# Altium footprint library pcb_lib_own_.PcbLib: 20 footprints (part 1 of 2)
Each footprint in its own frame and in the unit in brackets; x right, y up, seen from the top. Pads: shape width x height; smd on the part's side, far side on the other; paste and mask are expansions set on the pad; w line width, h text height; cw(c..) or ccw(c..) is an arc to the next point about the centre after c.
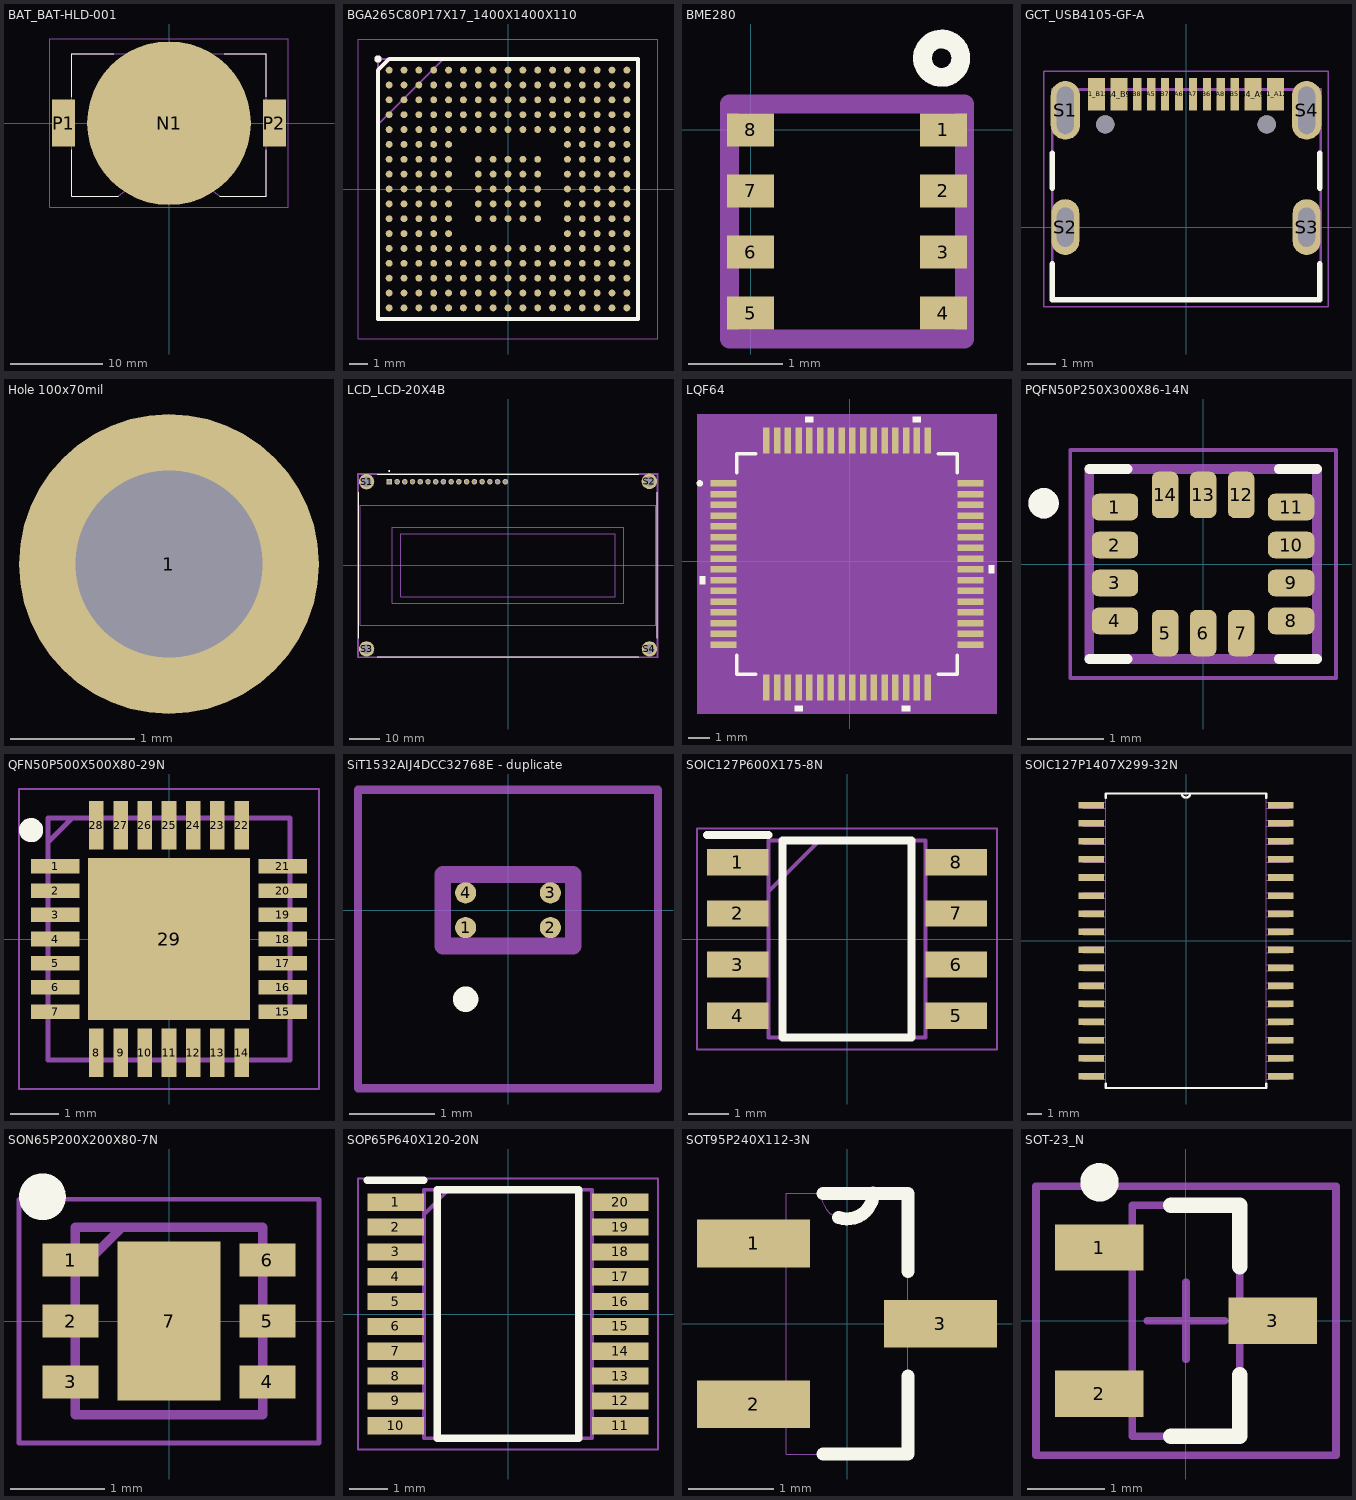
[diagram p0: the footprints below, top view; thin cyan lines are the x and y axes]

## BAT_BAT-HLD-001 [mm]
pads (3):
  round 17.8 smd paste-10: N1(0,0)
  rect 2.5x5.1 smd: P1(-11.45,0) P2(11.45,0)
Top Overlay:
  lines w0.127: -10.55,-2.87 -10.55,-7.95 -5.5,-7.95 ; -10.55,2.87 -10.55,7.55 -6,7.55 ; 5.5,-7.95 10.55,-7.95 10.55,-2.87 ; 6,7.55 10.55,7.55 10.55,2.87
Mechanical 13:
  lines w0.127: -5.5,-7.95 -10.55,-7.95 -10.55,7.55 10.55,7.55 10.55,-7.95 5.5,-7.95 ; -5.495,-7.946 cw(c0,-14.731) 0,-6 cw(c0,-14.731) 5.495,-7.946
Mechanical 15:
  lines w0.05: -12.95,-9.15 -12.95,9.15 12.95,9.15 12.95,-9.15 -12.95,-9.15
3D body "CR2032_closed_battery_BH.step": height 3.7, standoff -0.16, extent -11.879,-10.257 11.371,9.743

## BGA265C80P17X17_1400X1400X110 [mm]
pads (265):
  round 0.37 smd: A1(-6.4,6.4) A2(-5.6,6.4) A3(-4.8,6.4) A4(-4,6.4) A5(-3.2,6.4) A6(-2.4,6.4) A7(-1.6,6.4) A8(-0.8,6.4) A9(0,6.4) A10(0.8,6.4) A11(1.6,6.4) A12(2.4,6.4) A13(3.2,6.4) A14(4,6.4) A15(4.8,6.4) A16(5.6,6.4) A17(6.4,6.4) B1(-6.4,5.6) B2(-5.6,5.6) B3(-4.8,5.6) B4(-4,5.6) B5(-3.2,5.6) B6(-2.4,5.6) B7(-1.6,5.6) B8(-0.8,5.6) B9(0,5.6) B10(0.8,5.6) B11(1.6,5.6) B12(2.4,5.6) B13(3.2,5.6) B14(4,5.6) B15(4.8,5.6) B16(5.6,5.6) B17(6.4,5.6) C1(-6.4,4.8) C2(-5.6,4.8) C3(-4.8,4.8) C4(-4,4.8) C5(-3.2,4.8) C6(-2.4,4.8) C7(-1.6,4.8) C8(-0.8,4.8) C9(0,4.8) C10(0.8,4.8) C11(1.6,4.8) C12(2.4,4.8) C13(3.2,4.8) C14(4,4.8) C15(4.8,4.8) C16(5.6,4.8) C17(6.4,4.8) D1(-6.4,4) D2(-5.6,4) D3(-4.8,4) D4(-4,4) D5(-3.2,4) D6(-2.4,4) D7(-1.6,4) D8(-0.8,4) D9(0,4) D10(0.8,4) D11(1.6,4) D12(2.4,4) D13(3.2,4) D14(4,4) D15(4.8,4) D16(5.6,4) D17(6.4,4) E1(-6.4,3.2) E2(-5.6,3.2) E3(-4.8,3.2) E4(-4,3.2) E5(-3.2,3.2) E6(-2.4,3.2) E7(-1.6,3.2) E8(-0.8,3.2) E9(0,3.2) E10(0.8,3.2) E11(1.6,3.2) E12(2.4,3.2) E13(3.2,3.2) E14(4,3.2) E15(4.8,3.2) E16(5.6,3.2) E17(6.4,3.2) F1(-6.4,2.4) F2(-5.6,2.4) F3(-4.8,2.4) F4(-4,2.4) F5(-3.2,2.4) F13(3.2,2.4) F14(4,2.4) F15(4.8,2.4) F16(5.6,2.4) F17(6.4,2.4) G1(-6.4,1.6) G2(-5.6,1.6) G3(-4.8,1.6) G4(-4,1.6) G5(-3.2,1.6) G7(-1.6,1.6) G8(-0.8,1.6) G9(0,1.6) G10(0.8,1.6) G11(1.6,1.6) G13(3.2,1.6) G14(4,1.6) G15(4.8,1.6) G16(5.6,1.6) G17(6.4,1.6) H1(-6.4,0.8) H2(-5.6,0.8) H3(-4.8,0.8) H4(-4,0.8) H5(-3.2,0.8) H7(-1.6,0.8) H8(-0.8,0.8) H9(0,0.8) H10(0.8,0.8) H11(1.6,0.8) H13(3.2,0.8) H14(4,0.8) H15(4.8,0.8) H16(5.6,0.8) H17(6.4,0.8) J1(-6.4,0) J2(-5.6,0) J3(-4.8,0) J4(-4,0) J5(-3.2,0) J7(-1.6,0) J8(-0.8,0) J9(0,0) J10(0.8,0) J11(1.6,0) J13(3.2,0) J14(4,0) J15(4.8,0) J16(5.6,0) J17(6.4,0) K1(-6.4,-0.8) K2(-5.6,-0.8) K3(-4.8,-0.8) K4(-4,-0.8) K5(-3.2,-0.8) K7(-1.6,-0.8) K8(-0.8,-0.8) K9(0,-0.8) K10(0.8,-0.8) K11(1.6,-0.8) K13(3.2,-0.8) K14(4,-0.8) K15(4.8,-0.8) K16(5.6,-0.8) K17(6.4,-0.8) L1(-6.4,-1.6) L2(-5.6,-1.6) L3(-4.8,-1.6) L4(-4,-1.6) L5(-3.2,-1.6) L7(-1.6,-1.6) L8(-0.8,-1.6) L9(0,-1.6) L10(0.8,-1.6) L11(1.6,-1.6) L13(3.2,-1.6) L14(4,-1.6) L15(4.8,-1.6) L16(5.6,-1.6) L17(6.4,-1.6) M1(-6.4,-2.4) M2(-5.6,-2.4) M3(-4.8,-2.4) M4(-4,-2.4) M5(-3.2,-2.4) M13(3.2,-2.4) M14(4,-2.4) M15(4.8,-2.4) M16(5.6,-2.4) M17(6.4,-2.4) N1(-6.4,-3.2) N2(-5.6,-3.2) N3(-4.8,-3.2) N4(-4,-3.2) N5(-3.2,-3.2) N6(-2.4,-3.2) N7(-1.6,-3.2) N8(-0.8,-3.2) N9(0,-3.2) N10(0.8,-3.2) N11(1.6,-3.2) N12(2.4,-3.2) N13(3.2,-3.2) N14(4,-3.2) N15(4.8,-3.2) N16(5.6,-3.2) N17(6.4,-3.2) P1(-6.4,-4) P2(-5.6,-4) P3(-4.8,-4) P4(-4,-4) P5(-3.2,-4) P6(-2.4,-4) P7(-1.6,-4) P8(-0.8,-4) P9(0,-4) P10(0.8,-4) P11(1.6,-4) P12(2.4,-4) P13(3.2,-4) P14(4,-4) P15(4.8,-4) P16(5.6,-4) P17(6.4,-4) R1(-6.4,-4.8) R2(-5.6,-4.8) R3(-4.8,-4.8) R4(-4,-4.8) R5(-3.2,-4.8) R6(-2.4,-4.8) R7(-1.6,-4.8) R8(-0.8,-4.8) R9(0,-4.8) R10(0.8,-4.8) R11(1.6,-4.8) R12(2.4,-4.8) R13(3.2,-4.8) R14(4,-4.8) R15(4.8,-4.8) R16(5.6,-4.8) R17(6.4,-4.8) T1(-6.4,-5.6) T2(-5.6,-5.6) T3(-4.8,-5.6) T4(-4,-5.6) T5(-3.2,-5.6) T6(-2.4,-5.6) T7(-1.6,-5.6) T8(-0.8,-5.6) T9(0,-5.6) T10(0.8,-5.6) T11(1.6,-5.6) T12(2.4,-5.6) T13(3.2,-5.6) T14(4,-5.6) T15(4.8,-5.6) T16(5.6,-5.6) T17(6.4,-5.6) U1(-6.4,-6.4) U2(-5.6,-6.4) U3(-4.8,-6.4) U4(-4,-6.4) U5(-3.2,-6.4) U6(-2.4,-6.4) U7(-1.6,-6.4) U8(-0.8,-6.4) U9(0,-6.4) U10(0.8,-6.4) U11(1.6,-6.4) U12(2.4,-6.4) U13(3.2,-6.4) U14(4,-6.4) U15(4.8,-6.4) U16(5.6,-6.4) U17(6.4,-6.4)
Top Overlay:
  circle w0.2: c-7,7 r0.1
  lines w0.2: -7,-7 7,-7 7,7 -6.4,7 -7,6.4 -7,-7
Mechanical 13:
  lines w0.1: -7,3.462 -3.462,7 ; -7,-7 7,-7 7,7 -7,7 -7,-7
Mechanical 15:
  lines w0.05: -8.075,-8.075 8.075,-8.075 8.075,8.075 -8.075,8.075 -8.075,-8.075
3D body "STM32H747XIH6.stp": height 1.1, standoff 0, extent -7,-7 7,7

## BME280 [mm]
pads (8):
  rect 0.5x0.35 smd: 1(2.05,0) 2(2.05,-0.65) 3(2.05,-1.3) 4(2.05,-1.95) 5(0,-1.95) 6(0,-1.3) 7(0,-0.65) 8(0,0)
Top Overlay:
  circle w0.2: c2.032,0.762 r0.204
Mechanical 15:
  lines w0.2: -0.225,-2.225 2.275,-2.225 2.275,0.275 -0.225,0.275 -0.225,-2.225
3D body "Bme280.stp": height 0.97, standoff 0, extent -0.234,-2.266 2.266,0.234

## GCT_USB4105-GF-A [mm]
pads (18):
  rect 0.6x1.15 smd: A1_B12(-3.2,4.755) A4_B9(-2.4,4.755) B1_A12(3.2,4.755) B4_A9(2.4,4.755)
  rect 0.3x1.15 smd: A5(-1.25,4.755) A6(-0.25,4.755) A7(0.25,4.755) A8(1.25,4.755) B5(1.75,4.755) B6(0.75,4.755) B7(-0.75,4.755) B8(-1.75,4.755)
  oval 1.05x2.1 hole 0.6 slot 1.7 at 90 deg: S1(-4.32,4.18) S4(4.32,4.18)
  oval 1x2 hole 0.6 slot 1.4 at 90 deg: S2(-4.32,0) S3(4.32,0)
  round 0.65 hole 0.65 unplated: ""(-2.89,3.68) ""(2.89,3.68)
Top Overlay:
  lines w0.2: -4.79,-1.32 -4.79,-2.6 4.79,-2.6 4.79,-1.32 ; -4.79,1.4 -4.79,2.65 ; 4.79,1.4 4.79,2.65
Mechanical 13:
  lines w0.1: -4.79,-2.6 -4.79,4.93 4.826,4.93 4.826,-2.6 -4.79,-2.6
Mechanical 15:
  lines w0.05: -5.1,-2.85 5.1,-2.85 5.1,5.58 -5.1,5.58 -5.1,-2.85
3D body "USB4105-GF-A--3DModel-STEP-56544.STEP": height 3.31, standoff -0.85, extent -4.79,-2.6 4.79,5.11

## Hole 100x70mil [mm]
pads (1):
  round 2.4 hole 1.5: 1(-118.237,-4.953)

## LCD_LCD-20X4B [mm]
pads (20):
  rect 1.8x1.8 hole 1.2: 1(-39,27.46)
  round 1.8 hole 1.2: 2(-36.46,27.46) 3(-33.92,27.46) 4(-31.38,27.46) 5(-28.84,27.46) 6(-26.3,27.46) 7(-23.76,27.46) 8(-21.22,27.46) 9(-18.68,27.46) 10(-16.14,27.46) 11(-13.6,27.46) 12(-11.06,27.46) 13(-8.52,27.46) 14(-5.98,27.46) 15(-3.44,27.46) 16(-0.9,27.46)
  round 5.1 hole 3.4: S1(-46.5,27.5) S2(46.482,27.559) S3(-46.5,-27.5) S4(46.5,-27.5)
Top Overlay:
  circle w0.3: c-39,31 r0.15
  lines w0.127: -49,-24 -49,24 ; -43,-30 43,-30 ; -43,30 43,30 ; 49,-24 49,24
Mechanical 13:
  circle w0.3: c-39,31 r0.15
  lines w0.127: -49,-30 -49,30 49,30 49,-30 -49,-30 ; -48.5,-19.75 48.5,-19.75 48.5,19.75 -48.5,19.75 -48.5,-19.75 ; -38,-12.5 -38,12.5 38,12.5 38,-12.5 -38,-12.5 ; -35.2,-10.4 35.2,-10.4 35.2,10.4 -35.2,10.4 -35.2,-10.4
Mechanical 15:
  lines w0.05: -49.3,-30.3 -49.3,30.3 49.3,30.3 49.3,-30.3 -49.3,-30.3
3D body "LCD20x4_HD44780-01_Blue.stp": height 10.88, standoff -2.77, extent -48.781,-29.845 49.289,30.099

## LQF64 [mil]
pads (64):
  rect 47x12 smd paste+0 mask+0: 1(-231.38,142.64) 2(-231.38,122.95) 3(-231.38,103.27) 4(-231.38,83.58) 5(-231.38,63.9) 6(-231.38,44.21) 7(-231.38,24.53) 8(-231.38,4.84) 9(-231.38,-14.84) 10(-231.38,-34.53) 11(-231.38,-54.21) 12(-231.38,-73.9) 13(-231.38,-93.58) 14(-231.38,-113.27) 15(-231.38,-132.95) 16(-231.38,-152.64) 33(221.38,-152.64) 34(221.38,-132.95) 35(221.38,-113.27) 36(221.38,-93.58) 37(221.38,-73.9) 38(221.38,-54.21) 39(221.38,-34.53) 40(221.38,-14.84) 41(221.38,4.84) 42(221.38,24.53) 43(221.38,44.21) 44(221.38,63.9) 45(221.38,83.58) 46(221.38,103.27) 47(221.38,122.95) 48(221.38,142.64)
  rect 12x47 smd paste+0 mask+0: 17(-152.64,-231.38) 18(-132.95,-231.38) 19(-113.27,-231.38) 20(-93.58,-231.38) 21(-73.9,-231.38) 22(-54.21,-231.38) 23(-34.53,-231.38) 24(-14.84,-231.38) 25(4.84,-231.38) 26(24.53,-231.38) 27(44.21,-231.38) 28(63.9,-231.38) 29(83.58,-231.38) 30(103.27,-231.38) 31(122.95,-231.38) 32(142.64,-231.38) 49(142.64,221.38) 50(122.95,221.38) 51(103.27,221.38) 52(83.58,221.38) 53(63.9,221.38) 54(44.21,221.38) 55(24.53,221.38) 56(4.84,221.38) 57(-14.84,221.38) 58(-34.53,221.38) 59(-54.21,221.38) 60(-73.9,221.38) 61(-93.58,221.38) 62(-113.27,221.38) 63(-132.95,221.38) 64(-152.64,221.38)
Top Overlay:
  circle w6: c-274.72,142.64 r3
  region: -66.4,254.88 -81.4,254.88 -81.4,264.88 -66.4,264.88
  region: 130.45,254.88 115.45,254.88 115.45,264.88 130.45,264.88
  region: 254.88,-7.34 264.88,-7.34 264.88,-22.34 254.88,-22.34
  region: 110.77,-264.88 95.77,-264.88 95.77,-274.88 110.77,-274.88
  region: -86.08,-264.88 -101.08,-264.88 -101.08,-274.88 -86.08,-274.88
  region: -264.88,-27.03 -274.88,-27.03 -274.88,-42.03 -264.88,-42.03
  lines w6: -207,-171.71 -207,-207 -171.71,-207 ; -207,161.71 -207,197 -171.71,197 ; 161.71,-207 197,-207 197,-171.71 ; 161.71,197 197,197 197,161.71
Mechanical 5:
  region: 269.88,-279.88 -279.88,-279.88 -279.88,269.88 269.88,269.88
Mechanical 13:
  circle w0: c-182.88,142.64 r3
  lines w1: -202,142 -152,192 ; -202,-202 -202,192 192,192 192,-202 -202,-202
Mechanical 15:
  region: -172.64,-212 -212,-212 -212,-172.64 -274.88,-172.64 -274.88,162.64 -212,162.64 -212,202 -172.64,202 -172.64,264.88 162.64,264.88 162.64,202 202,202 202,162.64 264.88,162.64 264.88,-172.64 202,-172.64 202,-212 162.64,-212 162.64,-274.88 -172.64,-274.88
  lines w6: -274.88,-172.64 -274.88,162.64 -212,162.64 -212,202 -172.64,202 -172.64,264.88 162.64,264.88 162.64,202 202,202 202,162.64 264.88,162.64 264.88,-172.64 202,-172.64 202,-212 162.64,-212 162.64,-274.88 -172.64,-274.88 -172.64,-212 -212,-212 -212,-172.64 -274.88,-172.64
3D body "LQFP64-10x10mm.step": height 63.11, standoff 0, extent -241.1,-241.1 231.1,231.1

## PQFN50P250X300X86-14N [mm]
pads (14):
  rrect50% 0.61x0.35 smd: 1(-1.16,0.75) 2(-1.16,0.25) 3(-1.16,-0.25) 4(-1.16,-0.75) 8(1.16,-0.75) 9(1.16,-0.25) 10(1.16,0.25) 11(1.16,0.75)
  rrect50% 0.35x0.61 smd: 5(-0.5,-0.91) 6(0,-0.91) 7(0.5,-0.91) 12(0.5,0.91) 13(0,0.91) 14(-0.5,0.91)
Top Overlay:
  circle w0.2: c-2.1,0.8 r0.1
  lines w0.127: -1.5,-1.25 -0.995,-1.25 ; -1.5,1.25 -0.995,1.25 ; 0.995,-1.25 1.5,-1.25 ; 0.995,1.25 1.5,1.25
Mechanical 13:
  circle w0.2: c-2.1,0.8 r0.1
  lines w0.127: -1.5,-1.25 -1.5,1.25 1.5,1.25 1.5,-1.25 -1.5,-1.25
Mechanical 15:
  lines w0.05: -1.75,-1.5 1.75,-1.5 1.75,1.5 -1.75,1.5 -1.75,-1.5
3D body "step_temp.STEP": height 0.86, standoff 0, extent -1.5,-1.25 1.5,1.25

## QFN50P500X500X80-29N [mm]
pads (29):
  rect 1x0.3 smd: 1(-2.35,1.5) 2(-2.35,1) 3(-2.35,0.5) 4(-2.35,0) 5(-2.35,-0.5) 6(-2.35,-1) 7(-2.35,-1.5) 15(2.35,-1.5) 16(2.35,-1) 17(2.35,-0.5) 18(2.35,0) 19(2.35,0.5) 20(2.35,1) 21(2.35,1.5)
  rect 0.3x1 smd: 8(-1.5,-2.35) 9(-1,-2.35) 10(-0.5,-2.35) 11(0,-2.35) 12(0.5,-2.35) 13(1,-2.35) 14(1.5,-2.35) 22(1.5,2.35) 23(1,2.35) 24(0.5,2.35) 25(0,2.35) 26(-0.5,2.35) 27(-1,2.35) 28(-1.5,2.35)
  rect 3.35x3.35 smd: 29(0,0)
Top Overlay:
  circle w0.25: c-2.85,2.25 r0.125
Mechanical 13:
  lines w0.1: -2.5,2 -2,2.5 ; -2.5,-2.5 -2.5,2.5 2.5,2.5 2.5,-2.5 -2.5,-2.5
Mechanical 15:
  lines w0.05: -3.1,-3.1 -3.1,3.1 3.1,3.1 3.1,-3.1 -3.1,-3.1
3D body "MAX2769BETI_V+.stp": height 0.8, standoff 0, extent -2.55,-2.55 2.55,2.55

## SiT1532AIJ4DCC32768E - duplicate [mm]
pads (4):
  round 0.25 smd: 1(-0.5,-0.205) 2(0.5,-0.205) 3(0.5,0.205) 4(-0.5,0.205)
Top Overlay:
  lines w0.2: -0.5,-1.1 cw(c-0.5,-1.05) -0.5,-1 ; -0.5,-1.1 ccw(c-0.5,-1.05) -0.5,-1 ; -0.5,-1.1 cw(c-0.5,-1.05) -0.5,-1
Mechanical 13:
  lines w0.2: -0.77,-0.42 0.77,-0.42 0.77,0.42 -0.77,0.42 -0.77,-0.42
Mechanical 15:
  lines w0.1: -1.77,-2.1 1.77,-2.1 1.77,1.42 -1.77,1.42 -1.77,-2.1
3D body "SiT1532AI-J4-DCC-32.768E.stp": height 0.7, standoff 0, extent -0.77,-0.42 0.77,0.42

## SOIC127P600X175-8N [mm]
pads (8):
  rect 1.525x0.65 smd: 1(-2.712,1.905) 2(-2.712,0.635) 3(-2.712,-0.635) 4(-2.712,-1.905) 5(2.712,-1.905) 6(2.712,-0.635) 7(2.712,0.635) 8(2.712,1.905)
Top Overlay:
  lines w0.2: -3.475,2.58 -1.95,2.58 ; -1.6,-2.45 -1.6,2.45 1.6,2.45 1.6,-2.45 -1.6,-2.45
Mechanical 13:
  lines w0.1: -1.95,1.18 -0.68,2.45 ; -1.95,-2.45 -1.95,2.45 1.95,2.45 1.95,-2.45 -1.95,-2.45
Mechanical 15:
  lines w0.05: -3.725,-2.75 -3.725,2.75 3.725,2.75 3.725,-2.75 -3.725,-2.75
3D body "NE555DR.stp": height 1.75, standoff 0, extent -3,-2.45 3,2.45

## SOIC127P1407X299-32N [mil]
pads (32):
  rect 71x18 smd: 1(-262,375) 2(-262,325) 3(-262,275) 4(-262,225) 5(-262,175) 6(-262,125) 7(-262,75) 8(-262,25) 9(-262,-25) 10(-262,-75) 11(-262,-125) 12(-262,-175) 13(-262,-225) 14(-262,-275) 15(-262,-325) 16(-262,-375) 17(262,-375) 18(262,-325) 19(262,-275) 20(262,-225) 21(262,-175) 22(262,-125) 23(262,-75) 24(262,-25) 25(262,25) 26(262,75) 27(262,125) 28(262,175) 29(262,225) 30(262,275) 31(262,325) 32(262,375)
Top Overlay:
  lines w6: -222,-396 -222,-408 222,-408 222,-396 ; -222,396 -222,408 -12,408 ; 222,396 222,408 12,408 ; -12,408 ccw(c0,408) 12,408 ; -12,408 12,408
Mechanical 13:
  lines w0: -12,408 ccw(c0,408) 12,408 ; -12,408 12,408 ; -12,408 -222,408 -222,-408 222,-408 222,408 12,408 ; -284,-383 -284,-367 -222,-367 -222,-383 -284,-383 ; -284,-333 -284,-317 -222,-317 -222,-333 -284,-333 ; -284,-283 -284,-267 -222,-267 -222,-283 -284,-283 ; -284,-233 -284,-217 -222,-217 -222,-233 -284,-233 ; -284,-183 -284,-167 -222,-167 -222,-183 -284,-183 ; -284,-133 -284,-117 -222,-117 -222,-133 -284,-133 ; -284,-83 -284,-67 -222,-67 -222,-83 -284,-83 ; -284,-33 -284,-17 -222,-17 -222,-33 -284,-33 ; -284,17 -284,33 -222,33 -222,17 -284,17 ; -284,67 -284,83 -222,83 -222,67 -284,67 ; -284,117 -284,133 -222,133 -222,117 -284,117 ; -284,167 -284,183 -222,183 -222,167 -284,167 ; -284,217 -284,233 -222,233 -222,217 -284,217 ; -284,267 -284,283 -222,283 -222,267 -284,267 ; -284,317 -284,333 -222,333 -222,317 -284,317 ; -284,367 -284,383 -222,383 -222,367 -284,367 ; 222,-383 222,-367 284,-367 284,-383 222,-383 ; 222,-333 222,-317 284,-317 284,-333 222,-333 ; 222,-283 222,-267 284,-267 284,-283 222,-283 ; 222,-233 222,-217 284,-217 284,-233 222,-233 ; 222,-183 222,-167 284,-167 284,-183 222,-183 ; 222,-133 222,-117 284,-117 284,-133 222,-133 ; 222,-83 222,-67 284,-67 284,-83 222,-83 ; 222,-33 222,-17 284,-17 284,-33 222,-33 ; 222,17 222,33 284,33 284,17 222,17 ; 222,67 222,83 284,83 284,67 222,67 ; 222,117 222,133 284,133 284,117 222,117 ; 222,167 222,183 284,183 284,167 222,167 ; 222,217 222,233 284,233 284,217 222,217 ; 222,267 222,283 284,283 284,267 222,267 ; 222,317 222,333 284,333 284,317 222,317 ; 222,367 222,383 284,383 284,367 222,367
3D body "AS6C1008-55SIN.stp": height 117.99, standoff 0, extent -282.5,-408.46 272.5,408.46

## SON65P200X200X80-7N [mm]
pads (7):
  rect 0.6x0.35 smd: 1(-1.05,0.65) 2(-1.05,0) 3(-1.05,-0.65) 4(1.05,-0.65) 5(1.05,0) 6(1.05,0.65)
  rect 1.1x1.7 smd: 7(0,0)
Top Overlay:
  circle w0.25: c-1.35,1.325 r0.125
Mechanical 13:
  lines w0.1: -1,0.5 -0.5,1 ; -1,-1 -1,1 1,1 1,-1 -1,-1
Mechanical 15:
  lines w0.05: -1.6,-1.3 -1.6,1.3 1.6,1.3 1.6,-1.3 -1.6,-1.3
3D body "LP5912-3.3DRVR.stp": height 0.8, standoff 0, extent -1,-1 1,1

## SOP65P640X120-20N [mm]
pads (20):
  rect 1.475x0.45 smd: 1(-2.938,2.925) 2(-2.938,2.275) 3(-2.938,1.625) 4(-2.938,0.975) 5(-2.938,0.325) 6(-2.938,-0.325) 7(-2.938,-0.975) 8(-2.938,-1.625) 9(-2.938,-2.275) 10(-2.938,-2.925) 11(2.938,-2.925) 12(2.938,-2.275) 13(2.938,-1.625) 14(2.938,-0.975) 15(2.938,-0.325) 16(2.938,0.325) 17(2.938,0.975) 18(2.938,1.625) 19(2.938,2.275) 20(2.938,2.925)
Top Overlay:
  lines w0.2: -3.675,3.5 -2.2,3.5 ; -1.85,-3.25 1.85,-3.25 1.85,3.25 -1.85,3.25 -1.85,-3.25
Mechanical 13:
  lines w0.1: -2.2,2.6 -1.55,3.25 ; -2.2,-3.25 2.2,-3.25 2.2,3.25 -2.2,3.25 -2.2,-3.25
Mechanical 15:
  lines w0.05: -3.925,-3.55 3.925,-3.55 3.925,3.55 -3.925,3.55 -3.925,-3.55
3D body "PCF8574PWR.stp": height 1.13, standoff 0, extent -3.2,-3.25 3.2,3.25

## SOT95P240X112-3N [mil]
pads (3):
  rect 52x22 smd: 1(-43,37) 2(-43,-37) 3(43,0)
Top Overlay:
  lines w6: -11,-60 28,-60 28,-24 ; -11,60 12,60 28,60 28,24 ; -3.9,48.96 ccw(c0.15,60.1) 12,60.1
Mechanical 13:
  lines w0: -28,-47 -52,-47 -52,-28 -28,-28 ; -28,-47 -28,-28 ; -28,-47 -28,-60 28,-60 28,-10 ; -28,-28 -28,28 ; -28,28 -52,28 -52,47 -28,47 ; -28,28 -28,47 ; -28,47 -28,60 -12,60 ; -12,60 ccw(c0,60) 12,60 ; -12,60 12,60 ; 12,60 28,60 28,10 ; 28,-10 52,-10 52,10 28,10 ; 28,-10 28,10
3D body "IRLML6344TRPBF.STEP": height 44.09, standoff 0, extent -54.41,-57.48 44.41,57.48

## SOT-23_N [mm] "SOT23, 3-Leads, Body 2.9x1.3mm, Pitch 0.95mm, Lead Span 2.5mm, IPC Medium Density"
height 1.1
pads (3):
  rect 1.15x0.6 smd: 1(-1.125,0.95) 2(-1.125,-0.95) 3(1.125,0)
Top Overlay:
  circle w0.25: c-1.125,1.8 r0.125
  lines w0.2: -0.2,-1.5 0.7,-1.5 0.7,-0.7 ; -0.2,1.5 0.7,1.5 0.7,0.7
Mechanical 13:
  lines w0.1: -0.7,-1.5 -0.7,1.5 0.7,1.5 0.7,-1.5 -0.7,-1.5
Mechanical 15:
  lines w0.1: -0.5,0 0.5,0 ; 0,-0.5 0,0.5 ; -1.95,-1.75 -1.95,1.75 1.95,1.75 1.95,-1.75 -1.95,-1.75
3D body: height 1.1, standoff 0, extent -0.7,-1.5 0.7,1.5